# Altium integrated library Infineon RF & Wireless Control.IntLib: 329 symbols (part 8 of 11)
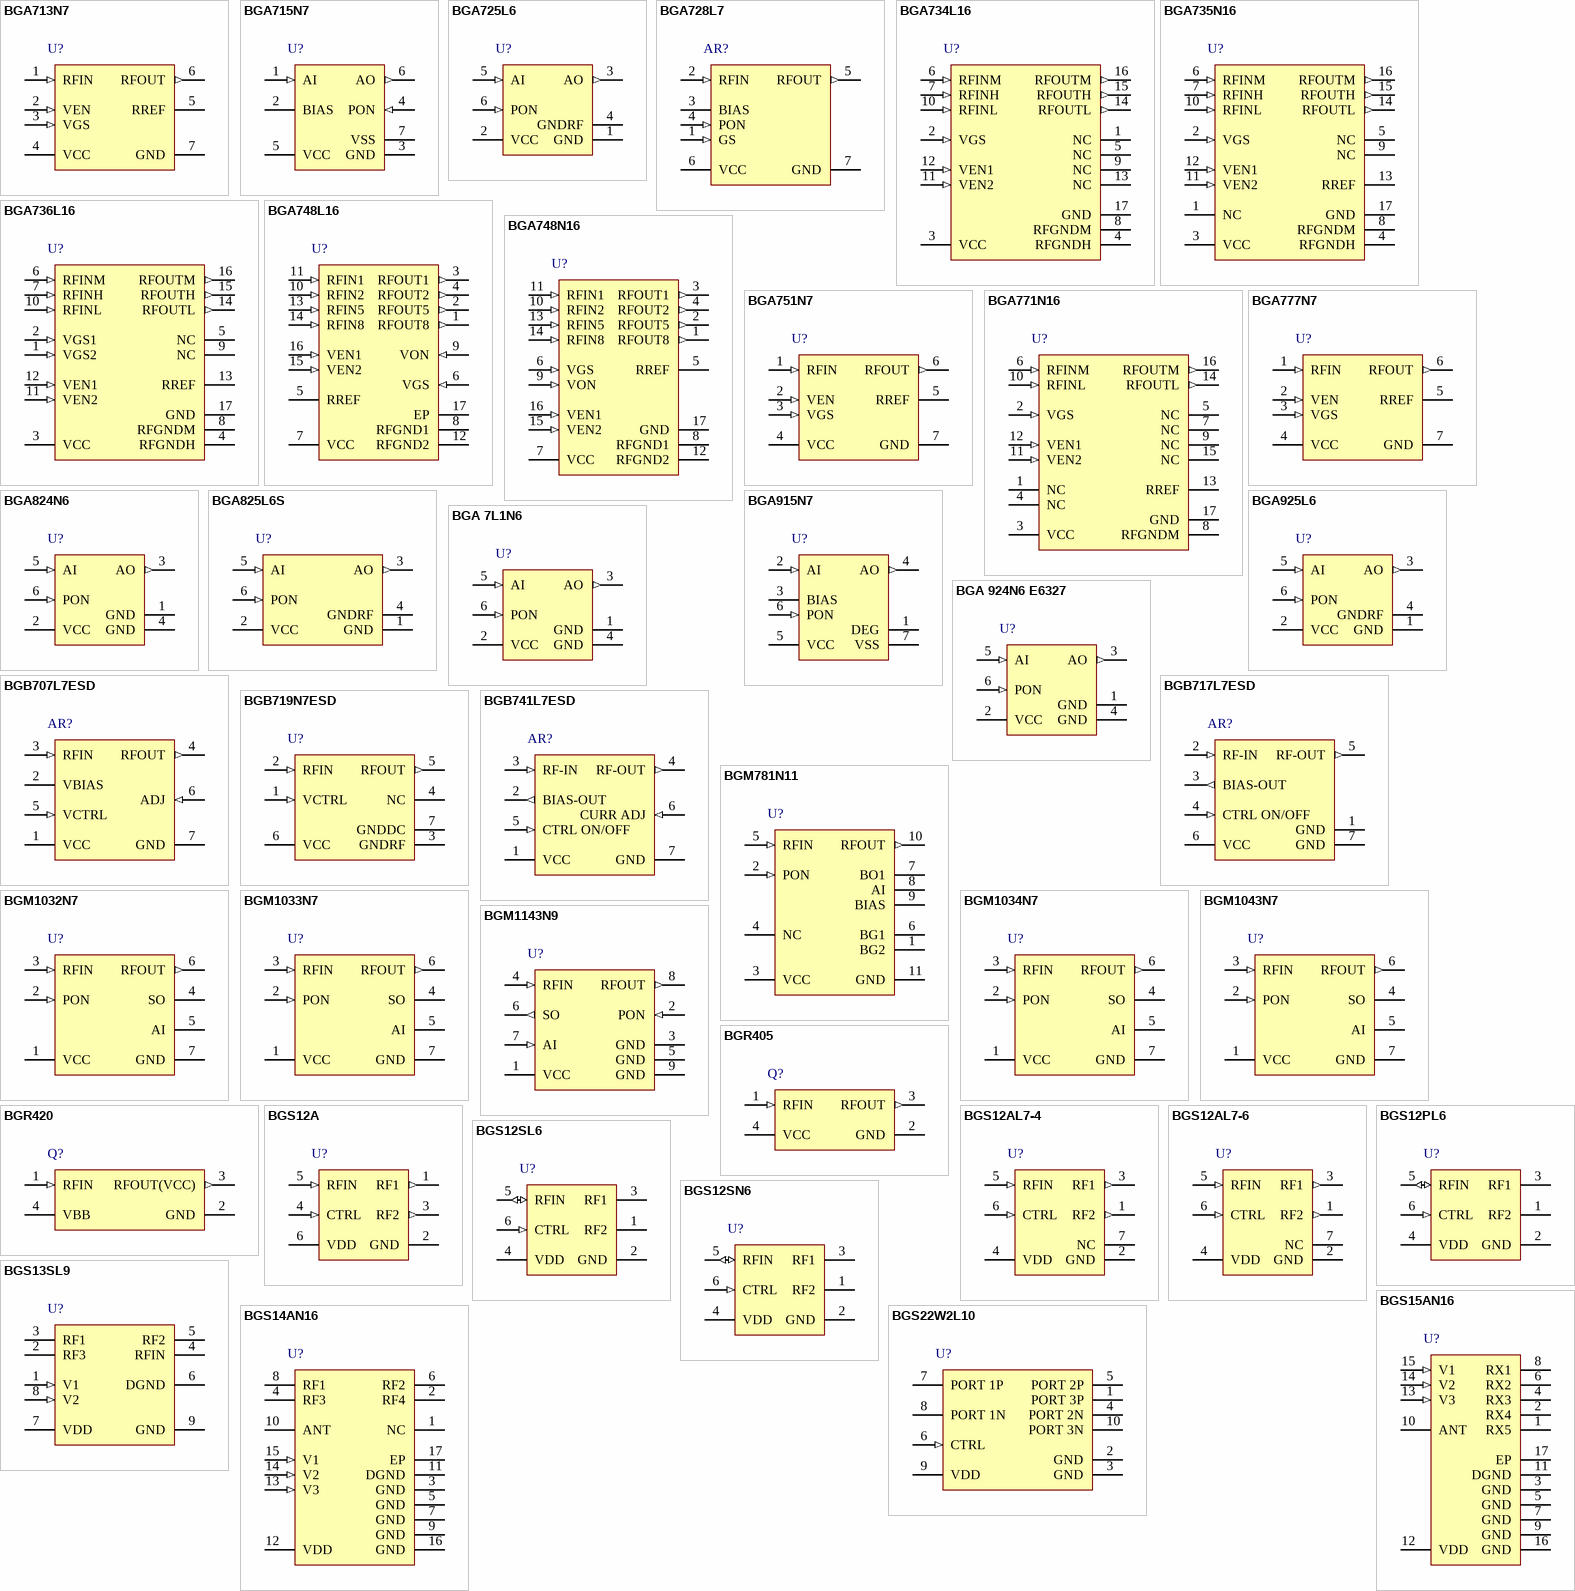
[diagram p16: symbols BGA713N7 to BGS22W2L10]

## BGS22W2L10
designator U?
DPDT (Dual-Pole / Double-Throw) Differential RF Switch, 0.1 to 2 GHz, TSLP-10, Reel, Green; Manufacturer: Infineon; PartNumber: BGS22W2L10; Green: TRUE; Insertion Loss @1GHz: 0.22 dB; Isolation @1GHz: 35 dB; Pmax: 24 dBm; Supply Voltage Range: 2.4 to 3.6 V; DatasheetVersion: Rev. 1.4; PackageVersion: Apr-14; PackageReference: TSLP-10-1; PackageDescription: 10-Pin Thin Small Leadless Package, 1.15 x 1.55 mm Body, 0.4 mm Pitch; Frequency ( f ) Range: 0.1 to 2 GHz; Halogen-free: TRUE; Packing: Reel; Switch Type: DPDT; Mounting Technology: Surface Mount; ComponentLink1Description: Manufacturer URL; ComponentLink1URL: http://www.infineon.com/; ComponentLink2Description: Datasheet; ComponentLink2URL: http://www.infineon.com/dgdl/BGS22W2L10.pdf?folderId=db3a30431f848401011fcbf2ab4c04c4&fileId=db3a30433f1b26e8013f2da8b944383c; ComponentLink3Description: Package Specification; ComponentLink3URL: http://www.infineon.com/dgdl/TSLP-10-1-Package_Overview_.pdf?folderId=db3a30431689f4420116afb5e4d9058b&fileId=db3a304345087709014521345d6c321a
footprint INF-TSLP-10-1_V (TSLP, 10-Leads, Body 1.15x1.55mm, Pitch 0.4mm)
pins: 1 PORT 3P "Differential Output P of Port 3", 2 GND (power) "Ground Pin", 3 GND (power) "Ground Pin", 4 PORT 2N "Differential Output N of Port 2", 5 PORT 2P "Differential Output P of Port 2", 6 CTRL (in) "Control Voltage", 7 PORT 1P "Differential Input P of Port 1", 8 PORT 1N "Differential Input N of Port 1", 9 VDD (power) "Supply Voltage", 10 PORT 3N "Differential Output N of Port 3"

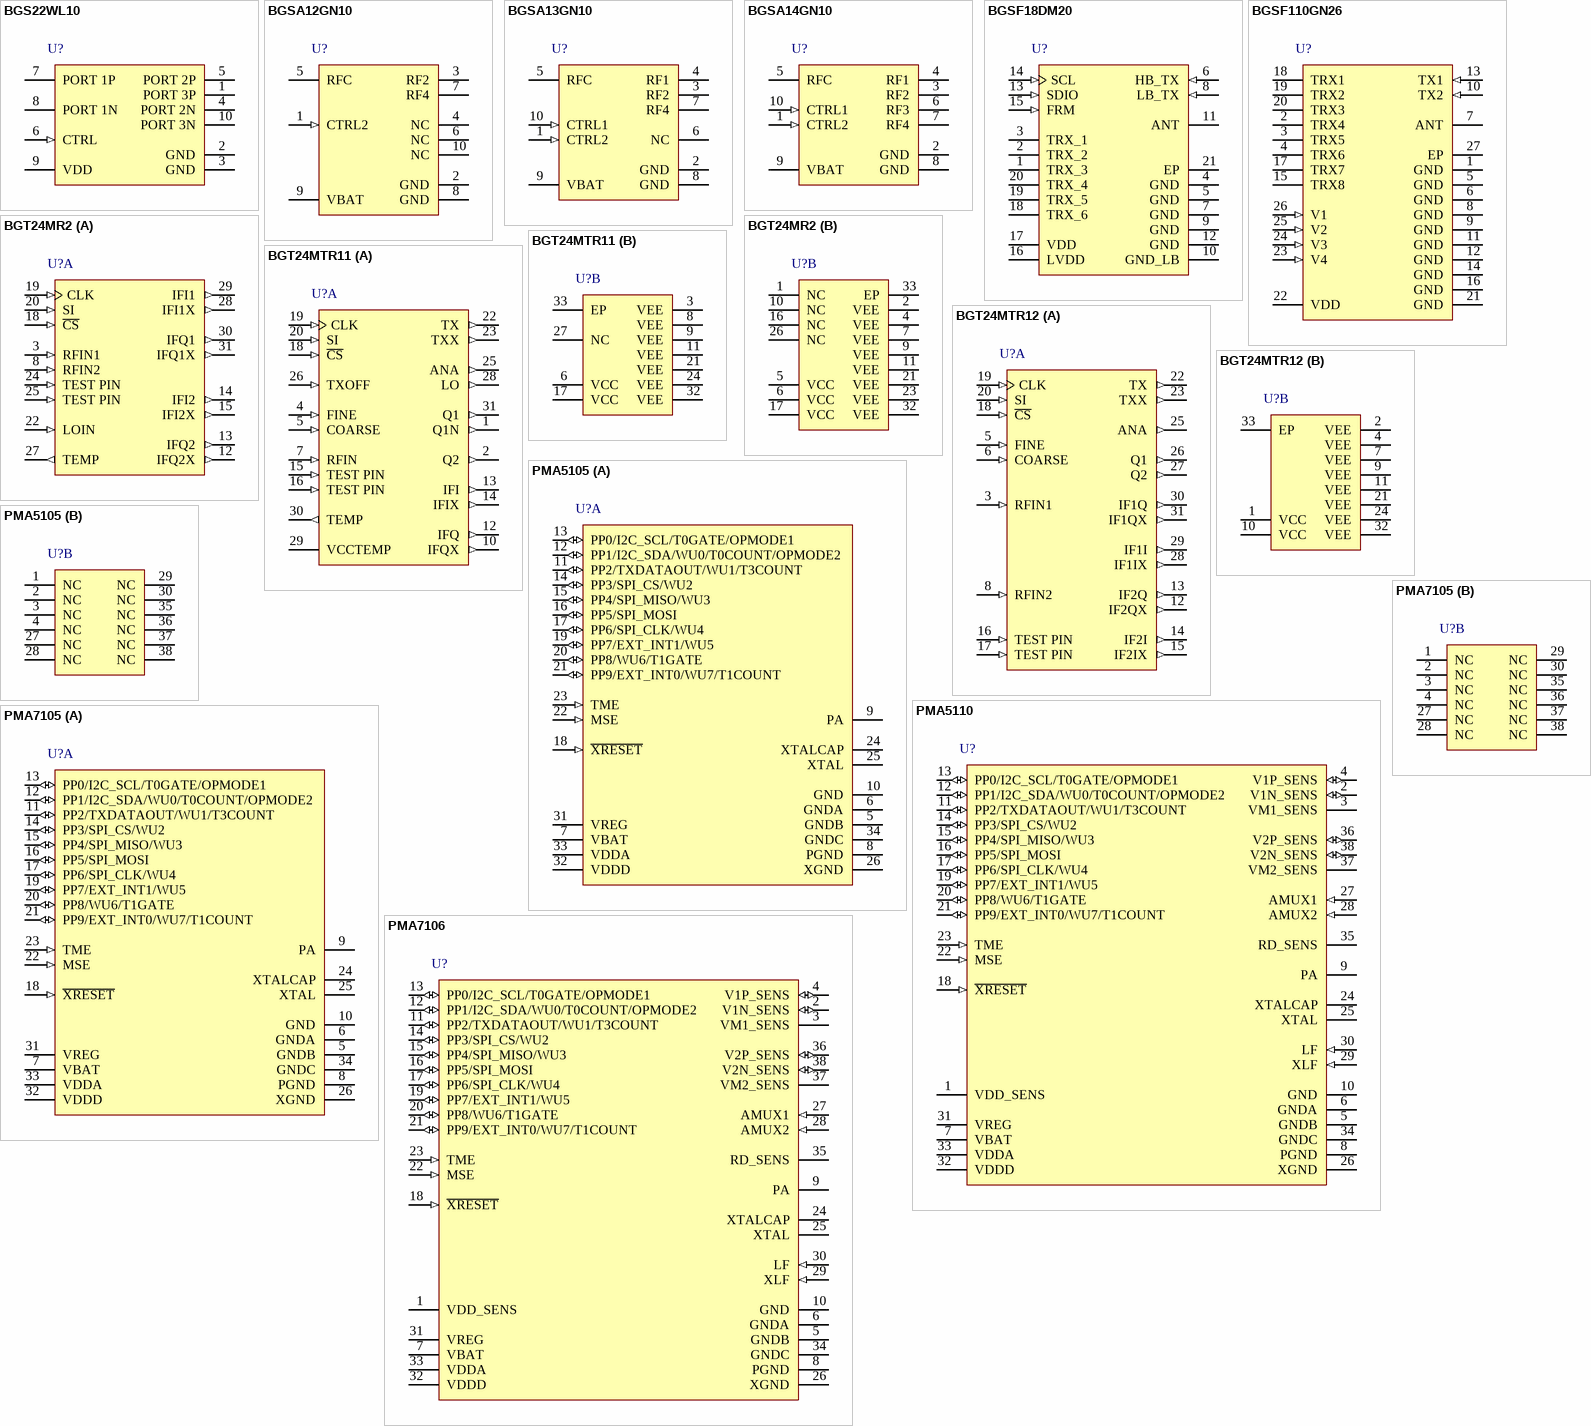
[diagram p7: symbols BGS22WL10 to PMA7106]

## BGS22WL10
designator U?
DPDT (Dual-Pole / Double-Throw) Differential RF Switch, 0.1 to 3 GHz, TSLP-10, Reel, Green; Manufacturer: Infineon; PartNumber: BGS22WL10; Green: TRUE; Insertion Loss @1GHz: 0.34 dB; Isolation @1GHz: 38 dB; Pmax: 30 dBm; Supply Voltage Range: 2.3 to 3.6 V; DatasheetVersion: Rev. 1.6; PackageVersion: Apr-14; PackageReference: TSLP-10-1; PackageDescription: 10-Pin Thin Small Leadless Package, 1.15 x 1.55 mm Body, 0.4 mm Pitch; Frequency ( f ) Range: 0.1 to 3 GHz; Halogen-free: TRUE; Packing: Reel; Switch Type: DPDT; Mounting Technology: Surface Mount; ComponentLink1Description: Manufacturer URL; ComponentLink1URL: http://www.infineon.com/; ComponentLink2Description: Datasheet; ComponentLink2URL: http://www.infineon.com/dgdl/BGS22WL10_2014-05-27.pdf?folderId=db3a30431f848401011fcbf2ab4c04c4&fileId=db3a30433f1b26e8013f2dab63f13842; ComponentLink3Description: Package Specification; ComponentLink3URL: http://www.infineon.com/dgdl/TSLP-10-1-Package_Overview_.pdf?folderId=db3a30431689f4420116afb5e4d9058b&fileId=db3a304345087709014521345d6c321a
footprint INF-TSLP-10-1_V (TSLP, 10-Leads, Body 1.15x1.55mm, Pitch 0.4mm)
pins: 1 PORT 3P "Differential Output P of Port 3", 2 GND (power) "Ground Pin", 3 GND (power) "Ground Pin", 4 PORT 2N "Differential Output N of Port 2", 5 PORT 2P "Differential Output P of Port 2", 6 CTRL (in) "Control Voltage", 7 PORT 1P "Differential Input P of Port 1", 8 PORT 1N "Differential Input N of Port 1", 9 VDD (power) "Supply Voltage", 10 PORT 3N "Differential Output N of Port 3"

## BGSA12GN10
designator U?
Antenna Tuning Solutions for Smartphone & Tablets, TSNP-10, Reel, Green; Manufacturer: Infineon; PartNumber: BGSA12GN10; Green: TRUE; Switch Type: SPDT; PackageVersion: Jun-14; PackageReference: TSNP-10-1; PackageDescription: 10-Pin Thin Small Non Leaded Package, 1.5 x 1.1 mm Body, 0.4 mm Pitch; Halogen-free: TRUE; Packing: Reel; Mounting Technology: Surface Mount; ComponentLink1Description: Manufacturer URL; ComponentLink1URL: http://www.infineon.com/; ComponentLink2Description: Datasheet; ComponentLink2URL: http://www.infineon.com/dgdl/Infineon_AntennaTuningSolutions_2014-06.pdf?folderId=db3a30431441fb5d01146ec76de80910&fileId=5546d461464245d301468a636c8c6598; ComponentLink3Description: Package Specification; ComponentLink3URL: http://www.infineon.com/dgdl/TSNP-10-1-Package_Overview_.pdf?folderId=db3a304327b89750012805e1379a6124&fileId=db3a304344ae06150144b1470dcf009a
footprint INF-TSNP-10-1_V (TSNP, 10-Leads, Body 1.5x1.1mm, Pitch 0.4mm)
pins: 1 CTRL2 (in), 2 GND (power), 3 RF2, 4 NC, 5 RFC, 6 NC, 7 RF4, 8 GND (power), 9 VBAT (power), 10 NC

## BGSA13GN10
designator U?
Antenna Tuning Solutions for Smartphone & Tablets, TSNP-10, Reel, Green; Manufacturer: Infineon; PartNumber: BGSA13GN10; Green: TRUE; Switch Type: SP3T; PackageVersion: Jun-14; PackageReference: TSNP-10-1; PackageDescription: 10-Pin Thin Small Non Leaded Package, 1.5 x 1.1 mm Body, 0.4 mm Pitch; Halogen-free: TRUE; Packing: Reel; Mounting Technology: Surface Mount; ComponentLink1Description: Manufacturer URL; ComponentLink1URL: http://www.infineon.com/; ComponentLink2Description: Datasheet; ComponentLink2URL: http://www.infineon.com/dgdl/Infineon_AntennaTuningSolutions_2014-06.pdf?folderId=db3a30431441fb5d01146ec76de80910&fileId=5546d461464245d301468a636c8c6598; ComponentLink3Description: Package Specification; ComponentLink3URL: http://www.infineon.com/dgdl/TSNP-10-1-Package_Overview_.pdf?folderId=db3a304327b89750012805e1379a6124&fileId=db3a304344ae06150144b1470dcf009a
footprint INF-TSNP-10-1_V (TSNP, 10-Leads, Body 1.5x1.1mm, Pitch 0.4mm)
pins: 1 CTRL2 (in), 2 GND (power), 3 RF2, 4 RF1, 5 RFC, 6 NC, 7 RF4, 8 GND (power), 9 VBAT (power), 10 CTRL1 (in)

## BGSA14GN10
designator U?
Antenna Tuning Solutions for Smartphone & Tablets, TSNP-10, Reel, Green; Manufacturer: Infineon; PartNumber: BGSA14GN10; Green: TRUE; Switch Type: SP4T; PackageVersion: Jun-14; PackageReference: TSNP-10-1; PackageDescription: 10-Pin Thin Small Non Leaded Package, 1.5 x 1.1 mm Body, 0.4 mm Pitch; Halogen-free: TRUE; Packing: Reel; Mounting Technology: Surface Mount; ComponentLink1Description: Manufacturer URL; ComponentLink1URL: http://www.infineon.com/; ComponentLink2Description: Datasheet; ComponentLink2URL: http://www.infineon.com/dgdl/Infineon_AntennaTuningSolutions_2014-06.pdf?folderId=db3a30431441fb5d01146ec76de80910&fileId=5546d461464245d301468a636c8c6598; ComponentLink3Description: Package Specification; ComponentLink3URL: http://www.infineon.com/dgdl/TSNP-10-1-Package_Overview_.pdf?folderId=db3a304327b89750012805e1379a6124&fileId=db3a304344ae06150144b1470dcf009a
footprint INF-TSNP-10-1_V (TSNP, 10-Leads, Body 1.5x1.1mm, Pitch 0.4mm)
pins: 1 CTRL2 (in), 2 GND (power), 3 RF2, 4 RF1, 5 RFC, 6 RF3, 7 RF4, 8 GND (power), 9 VBAT (power), 10 CTRL1 (in)

## BGSF18DM20
designator U?
SP8T Antenna Switch Module, 0.1 to 2.7 GHz, PG-VCCN-20, Reel, Green; Manufacturer: Infineon; PartNumber: BGSF18DM20; Green: TRUE; Pmax: 36 dBm; Supply Voltage Range: 2.85 to 4.7 V; DatasheetVersion: Rev. 2.4; PackageReference: PG-VCCN-20-1; PackageDescription: 20-Pin Small Form Factor Package, 3.2 x 2.8 mm Body, 0.4 mm Pitch; Frequency ( f ) Range: 0.1 to 2.7 GHz; Halogen-free: TRUE; Packing: Reel; Switch Type: SP8T; Mounting Technology: Surface Mount; ComponentLink1Description: Manufacturer URL; ComponentLink1URL: http://www.infineon.com/; ComponentLink2Description: Datasheet; ComponentLink2URL: http://www.infineon.com/dgdl/BGSF18DM20.pdf?folderId=db3a30431f848401011fcbf2ab4c04c4&fileId=db3a30433f2e70c5013f334cfa28119c; ComponentLink3Description: Package Specification; ComponentLink3URL: http://www.infineon.com/dgdl/BGSF18DM20.pdf?folderId=db3a30431f848401011fcbf2ab4c04c4&fileId=db3a30433f2e70c5013f334cfa28119c
footprint INF-PG-VCCN-20-1_N (QFN, 20-Leads, Body 3.2x2.8mm, Pitch 0.4mm, Thermal Pad 1.2X1.6mm, IPC Medium Density)
footprint INF-PG-VCCN-20-1_L (QFN, 20-Leads, Body 3.2x2.8mm, Pitch 0.4mm, Thermal Pad 1.2X1.6mm, IPC High Density)
footprint INF-PG-VCCN-20-1_M (QFN, 20-Leads, Body 3.2x2.8mm, Pitch 0.4mm, Thermal Pad 1.2X1.6mm, IPC Low Density)
pins: 1 TRX_3 "WCDMA TRX-port", 2 TRX_2 "WCDMA TRX-port", 3 TRX_1 "WCDMA TRX-port", 4 GND (power) "Ground", 5 GND (power) "Ground", 6 HB_TX (in) "High Band GSM TX-port", 7 GND (power) "Ground", 8 LB_TX (in) "Low Band GSM TX-port", 9 GND (power) "Ground", 10 GND_LB (power) "Ground Lowband", 11 ANT "Antenna Port", 12 GND (power) "Ground", 13 SDIO (in) "SPI Data", 14 SCL (in) "SPI Clock", 15 FRM (in) "SPI Frame", 16 LVDD (power) "SPI Supply Voltage", 17 VDD (power) "Supply Voltage", 18 TRX_6 "WCDMA TRX-port", 19 TRX_5 "WCDMA TRX-port", 20 TRX_4 "WCDMA TRX-port", 21 EP (power)

## BGSF110GN26
designator U?
SP10T Antenna Switch Module, 0.1 to 3.8 GHz, PG-TSNP-26, Reel, Green; Manufacturer: Infineon; PartNumber: BGSF110GN26; Green: TRUE; Pmax: 36 dBm; Supply Voltage Range: 2.4 - 3.3 V; DatasheetVersion: Rev. 1.3; PackageReference: PG-TSNP-26-2; PackageDescription: 26-Pin Thin Small Non Leaded Package, 3.4 x 2.6 mm Body, 0.4 mm Pitch; Frequency ( f ) Range: 0.1 to 3.8 GHz; Halogen-free: TRUE; Packing: Reel; Switch Type: SP10T; Mounting Technology: Surface Mount; ComponentLink1Description: Manufacturer URL; ComponentLink1URL: http://www.infineon.com/; ComponentLink2Description: Datasheet; ComponentLink2URL: http://www.infineon.com/dgdl/BGSF110GN26_DataSheet_Rev1+3.pdf?folderId=db3a30431f848401011fcbf2ab4c04c4&fileId=db3a30433ea3aef6013ea848e89e07b1; ComponentLink3Description: Package Specification; ComponentLink3URL: http://www.infineon.com/dgdl/BGSF110GN26_DataSheet_Rev1+3.pdf?folderId=db3a30431f848401011fcbf2ab4c04c4&fileId=db3a30433ea3aef6013ea848e89e07b1
footprint INF-PG-TSNP-26-2_V (TSNP, 26-Leads, Body 3.4x2.6mm, Pitch 0.4mm)
pins: 1 GND (power) "RF Ground", 2 TRX4 "WCDMA TRX-Port", 3 TRX5 "WCDMA TRX-Port", 4 TRX6 "WCDMA TRX-Port", 5 GND (power) "RF Ground", 6 GND (power) "RF Ground", 7 ANT "Antenna Port", 8 GND (power) "RF Ground", 9 GND (power) "RF Ground", 10 TX2 (in) "GSM HB-Port", 11 GND (power) "RF Ground", 12 GND (power) "RF Ground", 13 TX1 (in) "GSM LB-Port", 14 GND (power) "RF Ground", 15 TRX8 "WCDMA TRX-Port (GSM RX-Port)", 16 GND (power) "RF Ground", 17 TRX7 "WCDMA TRX-Port (GSM RX-Port)", 18 TRX1 "WCDMA TRX-Port", 19 TRX2 "WCDMA TRX-Port", 20 TRX3 "WCDMA TRX-Port", 21 GND (power) "DC Ground", 22 VDD (power) "Supply Voltage", 23 V4 (in) "GPIO Control Ping", 24 V3 (in) "GPIO Control Pin", 25 V2 (in) "GPIO Control Pin", 26 V1 (in) "GPIO Control Pin", 27 EP (power) "Ground, Die Pad"

## BGT24MR2
designator U?
Silicon Germanium 24 GHz Twin IQ Receiver MMIC, 90 mA ICC, PG-VQFN-32-9, Reel, Green; Manufacturer: Infineon; PartNumber: BGT24MR2; Compression Point P1dB (typ): -12; Frequency (f): 24 - 26 GHz; Frequency Divider: FALSE; Gain (typ): 26 dB; Green: TRUE; ICC (typ): 90 mA; NFmin (typ): 11 dB; DatasheetVersion: Rev. 2.0; PackageVersion: Jul-12; PackageReference: PG-VQFN-32-9; PackageDescription: 32-Pin Plastic (Green) Very Thin Profile Quad Flat Non Leaded Package, Body 5.3 x 4.3 mm, Pitch 0.5 mm; Halogen-free: available; Packing: Reel; Mounting Technology: Surface Mount; ComponentLink1Description: Manufacturer URL; ComponentLink1URL: http://www.infineon.com/; ComponentLink2Description: Datasheet; ComponentLink2URL: http://www.infineon.com/dgdl/bgt24mr2.pdf?folderId=db3a30431f848401011fcbf2ab4c04c4&fileId=db3a304339dcf4b10139df072eae0242; ComponentLink3Description: Package Specification; ComponentLink3URL: http://www.infineon.com/dgdl/PG-VQFN-32-9%2C-15-Package_Overview.pdf?folderId=db3a304316f66ee80116f70ddc29001d&fileId=db3a30433917ea3301392630e9702a58
footprint INF-PG-VQFN-32-9_N (QFN, 32-Leads, Body 5.5x4.5mm, Pitch 0.5mm, Thermal Pad 2.9x3.9mm, IPC Medium Density)
footprint INF-PG-VQFN-32-9_L (QFN, 32-Leads, Body 5.5x4.5mm, Pitch 0.5mm, Thermal Pad 2.9x3.9mm, IPC High Density)
footprint INF-PG-VQFN-32-9_M (QFN, 32-Leads, Body 5.5x4.5mm, Pitch 0.5mm, Thermal Pad 2.9x3.9mm, IPC Low Density)
part A pins: 3 RFIN1 (in) "RF input downconverter 1", 8 RFIN2 (in) "RF input downconverter 2", 12 IFQ2X (out) "Complementary quadrature phase IF output downconverter 2", 13 IFQ2 (out) "Quadrature phase IF output downconverter 2", 14 IFI2 (out) "In phase IF output downconverter 2", 15 IFI2X (out) "Complementary in phase IF output downconverter 2", 18 ~{CS} (in) "Chip select input SPI (inverted)", 19 CLK (in) "Clock input SPI", 20 SI (in) "Data input SPI", 22 LOIN (in) "LO input", 24 TEST PIN (in) "Test pin; DC coupled pin", 25 TEST PIN (in) "Test pin; DC coupled pin", 27 TEMP (out) "Temperature sensor output", 28 IFI1X (out) "Complementary in phase IF output downconverter 1", 29 IFI1 (out) "In phase IF output downconverter 1", 30 IFQ1 (out) "Quadrature phase IF output downconverter 1", 31 IFQ1X (out) "Complementary quadratrue phase IF output downconverter 1"
part B pins: 1 NC "Not connected", 2 VEE (power) "Ground", 4 VEE (power) "Ground", 5 VCC (power) "Supply voltage", 6 VCC (power) "Supply voltage", 7 VEE (power) "Ground", 9 VEE (power) "Ground", 10 NC "Not connected", 11 VEE (power) "Ground", 16 NC "Do not connect; DC coupled pin", 17 VCC (power) "Supply voltage", 21 VEE (power) "Ground", 23 VEE (power) "Ground", 26 NC "Do not connect; DC coupled pin", 32 VEE (power) "Ground", 33 EP (power)

## BGT24MTR11
designator U?
Silicon Germanium 24 GHz Transceiver MMIC, 150 mA ICC, PG-VQFN-32-9, Reel, Green; Manufacturer: Infineon; PartNumber: BGT24MTR11; Compression Point P1dB (typ): -12; Frequency (f): 24 - 26 GHz; Frequency Divider: TRUE; Gain (typ): 26 dB; ICC (typ): 150 mA; NFmin (typ): 12 dB; PTX (typ): 8 dBm; DatasheetVersion: Rev. 2.3; PackageVersion: Jul-12; PackageReference: PG-VQFN-32-9; PackageDescription: 32-Pin Plastic (Green) Very Thin Profile Quad Flat Non Leaded Package, Body 5.3 x 4.3 mm, Pitch 0.5 mm; Supplier 1: Mouser; Supplier Part Number 1: N/A; Green: TRUE; Halogen-free: TRUE; Packing: Reel; Mounting Technology: Surface Mount; ComponentLink1Description: Manufacturer URL; ComponentLink1URL: http://www.infineon.com/; ComponentLink2Description: Datasheet; ComponentLink2URL: http://www.infineon.com/dgdl/bgt24mtr11.pdf?folderId=db3a30431f848401011fcbf2ab4c04c4&fileId=db3a304339dcf4b10139def491930214; ComponentLink3Description: Package Specification; ComponentLink3URL: http://www.infineon.com/dgdl/PG-VQFN-32-9%2C-15-Package_Overview.pdf?folderId=db3a304316f66ee80116f70ddc29001d&fileId=db3a30433917ea3301392630e9702a58
footprint INF-PG-VQFN-32-9_N (QFN, 32-Leads, Body 5.5x4.5mm, Pitch 0.5mm, Thermal Pad 2.9x3.9mm, IPC Medium Density)
footprint INF-PG-VQFN-32-9_L (QFN, 32-Leads, Body 5.5x4.5mm, Pitch 0.5mm, Thermal Pad 2.9x3.9mm, IPC High Density)
footprint INF-PG-VQFN-32-9_M (QFN, 32-Leads, Body 5.5x4.5mm, Pitch 0.5mm, Thermal Pad 2.9x3.9mm, IPC Low Density)
part A pins: 1 Q1N (out) "Complementary prescaler output 1.5GHz", 2 Q2 (out) "Prescaler output 23kHz", 4 FINE (in) "VCO fine tuning input", 5 COARSE (in) "VCO coarse tuning input", 7 RFIN (in) "RF input downconverter", 10 IFQX (out) "Complementary quadrature phase IF output downconverter", 12 IFQ (out) "Quadrature phase IF output downconverter", 13 IFI (out) "In phase IF output downconverter", 14 IFIX (out) "Complementary in phase IF output downconverter", 15 TEST PIN (in) "Test pin; DC coupled pin", 16 TEST PIN (in) "Test pin; DC coupled pin", 18 ~{CS} (in) "Chip select input SPI (inverted)", 19 CLK (in) "Clock input SPI interface", 20 SI (in) "Data input SPI interface", 22 TX (out) "Transmit output", 23 TXX (out) "Complementary transmit output", 25 ANA (out) "Analog output", 26 TXOFF (in) "Pulsable Pin / Please connect to VEE in case TXOFF function is controlled via SPI", 28 LO (out) "LO output", 29 VCCTEMP (power) "Temperature sensor supply voltage", 30 TEMP (out) "Temperature sensor output", 31 Q1 (out) "Prescaler output 1.5GHz"
part B pins: 3 VEE (power) "Ground", 6 VCC (power) "Supply voltage; Total current divided equal on both VCC pins", 8 VEE (power) "Ground", 9 VEE (power) "Ground", 11 VEE (power) "Ground", 17 VCC (power) "Supply voltage; Total current divided equal on both VCC pins", 21 VEE (power) "Ground", 24 VEE (power) "Ground", 27 NC "Not connected", 32 VEE (power) "Ground", 33 EP (power)

## BGT24MTR12
designator U?
Silicon Germanium 24 GHz Transceiver MMIC, 200 mA ICC, PG-VQFN-32-9, Reel, Green; Manufacturer: Infineon; PartNumber: BGT24MTR12; Compression Point P1dB (typ): -12; Frequency (f): 24 - 26 GHz; Frequency Divider: TRUE; Gain (typ): 26 dB; ICC (typ): 200 mA; NFmin (typ): 12 dB; PTX (typ): 8 dBm; DatasheetVersion: Rev. 2.0; PackageVersion: Jul-12; PackageReference: PG-VQFN-32-9; PackageDescription: 32-Pin Plastic (Green) Very Thin Profile Quad Flat Non Leaded Package, Body 5.3 x 4.3 mm, Pitch 0.5 mm; Supplier 1: Mouser; Supplier Part Number 1: N/A; Green: TRUE; Halogen-free: TRUE; Packing: Reel; Mounting Technology: Surface Mount; ComponentLink1Description: Manufacturer URL; ComponentLink1URL: http://www.infineon.com/; ComponentLink2Description: Datasheet; ComponentLink2URL: http://www.infineon.com/dgdl/bgt24mtr12.pdf?folderId=db3a30431f848401011fcbf2ab4c04c4&fileId=db3a304339dcf4b10139df108e75025b; ComponentLink3Description: Package Specification; ComponentLink3URL: http://www.infineon.com/dgdl/PG-VQFN-32-9%2C-15-Package_Overview.pdf?folderId=db3a304316f66ee80116f70ddc29001d&fileId=db3a30433917ea3301392630e9702a58
footprint INF-PG-VQFN-32-9_N (QFN, 32-Leads, Body 5.5x4.5mm, Pitch 0.5mm, Thermal Pad 2.9x3.9mm, IPC Medium Density)
footprint INF-PG-VQFN-32-9_L (QFN, 32-Leads, Body 5.5x4.5mm, Pitch 0.5mm, Thermal Pad 2.9x3.9mm, IPC High Density)
footprint INF-PG-VQFN-32-9_M (QFN, 32-Leads, Body 5.5x4.5mm, Pitch 0.5mm, Thermal Pad 2.9x3.9mm, IPC Low Density)
part A pins: 3 RFIN1 (in) "RF input downconverter 1", 5 FINE (in) "VCO fine tuning input", 6 COARSE (in) "VCO coarse tuning input", 8 RFIN2 (in) "RF input downconverter 2", 12 IF2QX (out) "Complementary quadrature phase IF output downconverter 2", 13 IF2Q (out) "Quadrature phase IF output downconverter 2", 14 IF2I (out) "In phase IF output downconverter 2", 15 IF2IX (out) "Complementary in phase IF output downconverter 2", 16 TEST PIN (in) "Test pin; DC coupled pin", 17 TEST PIN (in) "Test pin; DC coupled pin", 18 ~{CS} (in) "Chip select input SPI (inverted)", 19 CLK (in) "Clock input SPI block", 20 SI (in) "Data input SPI block", 22 TX (out) "Transmit output", 23 TXX (out) "Complementary transmit output", 25 ANA (out) "Analog output", 26 Q1 (out) "Prescaler output 1.5GHz", 27 Q2 (out) "Prescaler output 23kHz", 28 IF1IX (out) "Complementary in phase IF output downconverter 1", 29 IF1I (out) "In phase IF output downconverter 1", 30 IF1Q (out) "Quadrature phase IF output downconverter 1", 31 IF1QX (out) "Complementary quadrature phase IF output downconverter 1"
part B pins: 1 VCC (power) "Supply voltage", 2 VEE (power) "Ground", 4 VEE (power) "Ground", 7 VEE (power) "Ground", 9 VEE (power) "Ground", 10 VCC (power) "Supply voltage", 11 VEE (power) "Ground", 21 VEE (power) "Ground", 24 VEE (power) "Ground", 32 VEE (power) "Ground", 33 EP (power)

## PMA5105
designator U?
RF Transmitter ASK / FSK 315 / 434 / 868 / 915 MHz, Embedded 8051 Microcontroller, 10-bit ADC, 125 kHz ASK LF Receiver, -40 to 125 degC, PG-TSSOP-38, Green; Manufacturer: Infineon; PartNumber: PMA5105; Channel Requirements per Band: Single Channel; Frequency Band: 315 MHz, 434 MHz, 868 MHz, 915 MHz; Green: yes; Transmit Power (at 3V): 5 dBm, 8 dBm, 10 dBm; DatasheetVersion: Rev. 2.1; PackageReference: PG-TSSOP-38; PackageDescription: 38-Pin Plastic (Green) Thin Shrink Small Outline Package, 9.7 x 4.4 mm Body, 0.5 mm Pitch; Supplier 1: Mouser; Supplier Part Number 1: 726-PMA5105; Supplier 2: Digi-Key; Supplier Part Number 2: PMA5105INTR-ND; Supplier 3: Digi-Key; Supplier Part Number 3: PMA5105INCT-ND; Supplier 4: Digi-Key; Supplier Part Number 4: PMA5105INDKR-ND; Halogen-free: yes; Integrated Microcontroller: yes; Modulation Type: ASK / FSK; Mounting Technology: Surface Mount; ComponentLink1Description: Manufacturer URL; ComponentLink1URL: http://www.infineon.com/; ComponentLink2Description: Datasheet; ComponentLink2URL: http://www.infineon.com/dgdl/PMA51xx_DS_V2_1.pdf?folderId=db3a30431689f4420116a096e1db033e&fileId=db3a30431ed1d7b2011efebe17d76b89; ComponentLink3Description: Package Specification; ComponentLink3URL: http://www.infineon.com/cms/packages/SMD_-_Surface_Mounted_Devices/P-PG-TSSOP/P-PG-TSSOP-38-3.html?__locale=en
footprint INF-PG-TSSOP-38_N (SOP, 38-Leads, Body 9.7x4.4 mm, Pitch 0.5 mm, IPC Medium Density)
footprint INF-PG-TSSOP-38_L (SOP, 38-Leads, Body 9.7x4.4 mm, Pitch 0.5 mm, IPC High Density)
footprint INF-PG-TSSOP-38_M (SOP, 38-Leads, Body 9.7x4.4 mm, Pitch 0.5 mm, IPC Low Density)
part A pins: 5 GNDB (power) "Ground", 6 GNDA (power) "Ground", 7 VBAT (power) "Battery Supply Voltage Regulators", 8 PGND (power) "Power Amplifier Ground Double bond", 9 PA (oc) "Power Amplifier Output Stage", 10 GND (power) "Ground", 11 PP2/TXDATAOUT/WU1/T3COUNT (io) "PP2-) Serial output of Manchester / Biphase encoded data.-)GPIO -) External wake-up source 1 -)Clock source for Timer 3 -) Internal, switchable pull-up/pulldown.", 12 PP1/I2C_SDA/WU0/T0COUNT/OPMODE2 (io) "PP1-) I2C bus interface data-) GPIO-) External wake-up source 0-) Clock source for Timer 0-) Select operation mode -) Internal, switchable pull-up/pulldown.", 13 PP0/I2C_SCL/T0GATE/OPMODE1 (io) "PP0-) I2C bus interface clock-) GPIO-) External enable for Timer 0-) Select operation mode-) Internal, switchable pull-up/pulldown.", 14 PP3/SPI_CS/WU2 (io) "PP3-) SPI bus interface chip select-) GPIO-) External wake-up source 2-) Internal, switchable pull-up/pulldown.", 15 PP4/SPI_MISO/WU3 (io) "PP4-) SPI bus interface master in slave out-) GPIO-) External wake-up source 3-) Internal, switchable pull-up/pulldown.", 16 PP5/SPI_MOSI (io) "PP5-) SPI bus interface master out slave in-) GPIO-) Internal, switchable pull-up/pulldown.", 17 PP6/SPI_CLK/WU4 (io) "PP6-) SPI bus interface clock -) GPIO -) External wake-up source 4 -) Internal, switchable pull-up/pulldown.", 18 ~{XRESET} (in) "External Reset Low active", 19 PP7/EXT_INT1/WU5 (io) "PP7-) GPIO-) External interrupt source 1-) External wake-up source 5-) Internal, switchable pull-up/pulldown.", 20 PP8/WU6/T1GATE (io) "PP8-) GPIO-) External wake-up source 6-) External enable for Timer 1-) Internal, switchable pull-up/pulldown.", 21 PP9/EXT_INT0/WU7/T1COUNT (io) "PP9-) GPIO-) External interrupt source 0-) External wake-up source 7-) Clock source for Timer 1-) Internal, switchable pull-up/pulldown.", 22 MSE (in) "Mode Select Enable High active, set to GND in NORMAL Mode", 23 TME (in) "Test Mode Enable, n.a. for Normal Application Has to be set to GND in NORMAL Mode", 24 XTALCAP "Crystal Oscillator Load Capacitance", 25 XTAL "Crystal Oscillator Input", 26 XGND (power) "Crystal Oscillator Ground", 31 VREG (power) "Internal Voltage Regulator Output Connect to decoupling capacitor (CBCAP=100 nF) Regulated Power supply.", 32 VDDD (power) "Digital Supply", 33 VDDA (power) "Analog Supply", 34 GNDC (power) "Ground"
part B pins: 1 NC "No connection", 2 NC "No connection", 3 NC "No connection", 4 NC "No connection", 27 NC "No connection", 28 NC "No connection", 29 NC "No connection", 30 NC "No connection", 35 NC "No connection", 36 NC "No connection", 37 NC "No connection", 38 NC "No connection"

## PMA5110
designator U?
RF Transmitter ASK / FSK 315 / 434 / 868 / 915 MHz, Embedded 8051 Microcontroller, 10-bit ADC, 125 kHz ASK LF Receiver, -40 to 125 degC, PG-TSSOP-38, Green; Manufacturer: Infineon; PartNumber: PMA5110; Channel Requirements per Band: Single Channel; Frequency Band: 315 MHz, 434 MHz, 868 MHz, 915 MHz; Green: yes; Transmit Power (at 3V): 5 dBm, 8 dBm, 10 dBm; DatasheetVersion: Rev. 2.1; PackageReference: PG-TSSOP-38; PackageDescription: 38-Pin Plastic (Green) Thin Shrink Small Outline Package, 9.7 x 4.4 mm Body, 0.5 mm Pitch; Supplier 1: Mouser; Supplier Part Number 1: 726-PMA5110; Supplier 2: Digi-Key; Supplier Part Number 2: PMA5110INTR-ND; Supplier 3: Digi-Key; Supplier Part Number 3: PMA5110INCT-ND; Supplier 4: Digi-Key; Supplier Part Number 4: PMA5110INDKR-ND; Halogen-free: yes; Integrated Microcontroller: yes; Modulation Type: ASK / FSK; Mounting Technology: Surface Mount; ComponentLink1Description: Manufacturer URL; ComponentLink1URL: http://www.infineon.com/; ComponentLink2Description: Datasheet; ComponentLink2URL: http://www.infineon.com/dgdl/PMA51xx_DS_V2_1.pdf?folderId=db3a30431689f4420116a096e1db033e&fileId=db3a30431ed1d7b2011efebe17d76b89; ComponentLink3Description: Package Specification; ComponentLink3URL: http://www.infineon.com/cms/packages/SMD_-_Surface_Mounted_Devices/P-PG-TSSOP/P-PG-TSSOP-38-3.html?__locale=en
footprint INF-PG-TSSOP-38_N (SOP, 38-Leads, Body 9.7x4.4 mm, Pitch 0.5 mm, IPC Medium Density)
footprint INF-PG-TSSOP-38_L (SOP, 38-Leads, Body 9.7x4.4 mm, Pitch 0.5 mm, IPC High Density)
footprint INF-PG-TSSOP-38_M (SOP, 38-Leads, Body 9.7x4.4 mm, Pitch 0.5 mm, IPC Low Density)
pins: 1 VDD_SENS (power) "Sensor Bridge Positive Supply Output of VReg during measurement.", 2 V1N_SENS (io) "Channel 6, High-gain ADC Input Negative input connect to sensor bridge.Output of wheatstone bridge sensor", 3 VM1_SENS (power) "Channel 6, High-gain ADC Input Sensor bridge negative supply.Same voltage as chip GND.", 4 V1P_SENS (io) "Channel 6, High-gain ADC Input Positive input connect to sensor bridge.Output of wheatstone bridge sensor", 5 GNDB (power) "Ground", 6 GNDA (power) "Ground", 7 VBAT (power) "Battery Supply Voltage Regulator", 8 PGND (power) "Power Amplifier Ground Double bond", 9 PA (oc) "Power Amplifier Output Stage", 10 GND (power) "Ground", 11 PP2/TXDATAOUT/WU1/T3COUNT (io) "PP2 -) Serial output of Manchester /Biphase encoded data.-) GPIO-) External wake-up source 1-) Clock source for Timer 3-) Internal, switchable pull-up/pull-down.", 12 PP1/I2C_SDA/WU0/T0COUNT/OPMODE2 (io) "PP1-) I2C bus interface data-) GPIO-) External wake-up source 0-) Clock source for Timer 0-) Select operation mode-) Internal, switchable pull-up/pull-down.", 13 PP0/I2C_SCL/T0GATE/OPMODE1 (io) "PP0-) I2C bus interface clock-) GPIO-) External enable for Timer 0-) Select operation mode-) Internal, switchable pull-up/pull-down.", 14 PP3/SPI_CS/WU2 (io) "PP3-) SPI bus interface chip select-) GPIO-) External wake-up source 2-) Internal, switchable pull-up/pull-down.", 15 PP4/SPI_MISO/WU3 (io) "PP4-) SPI bus interface master in slave out-) GPIO-) External wake-up source 3-) Internal, switchable pull-up/pull-down.", 16 PP5/SPI_MOSI (io) "PP5-) SPI bus interface master out slave in-) GPIO-) Internal, switchable pull-up/pull-down.", 17 PP6/SPI_CLK/WU4 (io) "PP6-) SPI bus interface clock-) GPIO-) External wake-up source 4-) Internal, switchable pull-up/pull-down.", 18 ~{XRESET} (in) "External Reset Low active", 19 PP7/EXT_INT1/WU5 (io) "PP7-) GPIO-) External interrupt source 1-) External wake-up source 5-) Internal, switchable pull-up/pull-down.", 20 PP8/WU6/T1GATE (io) "PP8-) GPIO-) External wake-up source 6-) External enable for Timer 1-) Internal, switchable pull-up/pull-down.", 21 PP9/EXT_INT0/WU7/T1COUNT (io) "PP9-) GPIO-) External interrupt source 0-) External wake-up source 7-) Clock source for Timer 1 -) Internal, switchable pull-up/pull-down.", 22 MSE (in) "Mode Select Enable High active, set to GND in NORMAL Mode.", 23 TME (in) "Test Mode Enable, n.a. for Normal Application Has to be set to GND in NORMAL Mode", 24 XTALCAP "Crystal Oscillator Load Capacitance", 25 XTAL "Crystal Oscillator Input", 26 XGND (power) "Crystal Oscillator Ground", 27 AMUX1 (in) "Additional Differential ADC Standard Input1 for External Sensor Connect to GND if not use.", 28 AMUX2 (in) "Additional Differential ADC Standard Input2 for External Sensor Connect to GND if not use.", 29 XLF (in) "Differential LF Receiver Input2 125kHz Input.", 30 LF (in) "Differential LF Receiver Input1", 31 VREG (power) "Internal Voltage Regulator Output Connect to decoupling capacitor (CBCAP=100 nF) Regulated Power supply.", 32 VDDD (power) "Digital Supply", 33 VDDA (power) "Analog Supply", 34 GNDC (power) "Ground", 35 RD_SENS "Diagnostic Resistor Use only by having diagnostic resistor on sensor bridge for highgain ADC input, otherwise no connection", 36 V2P_SENS (io) "Channel 7, High-gain ADC Input Positive input connect to sensor bridge.Output of Wheatstone bridge sensor.", 37 VM2_SENS (power) "Channel 7, High-gain ADC Input Sensor bridge negative supply.Same voltage as chip GND.", 38 V2N_SENS (io) "Channel 7, High-gain ADC Input Negative input connect to sensor bridge.Output of Wheatstone bridge sensor."

## PMA7105
designator U?
RF Transmitter ASK / FSK 315 / 434 / 868 / 915 MHz, Embedded 8051 Microcontroller, 10-bit ADC, 125 kHz ASK LF Receiver, -40 to 85 degC, PG-TSSOP-38, Green; Manufacturer: Infineon; PartNumber: PMA7105; Channel Requirements per Band: Single Channel; Frequency Band: 315 MHz, 434 MHz, 868 MHz, 915 MHz; Green: yes; Transmit Power (at 3V): 5 dBm, 8 dBm, 10 dBm; DatasheetVersion: Rev. 2.1; PackageReference: PG-TSSOP-38; PackageDescription: 38-Pin Plastic (Green) Thin Shrink Small Outline Package, 9.7 x 4.4 mm Body, 0.5 mm Pitch; Supplier 1: Mouser; Supplier Part Number 1: 726-PMA7105; Supplier 2: Digi-Key; Supplier Part Number 2: PMA7105INTR-ND; Supplier 3: Digi-Key; Supplier Part Number 3: PMA7105INCT-ND; Supplier 4: Digi-Key; Supplier Part Number 4: PMA7105INDKR-ND; Halogen-free: yes; Integrated Microcontroller: yes; Modulation Type: ASK / FSK; Mounting Technology: Surface Mount; ComponentLink1Description: Manufacturer URL; ComponentLink1URL: http://www.infineon.com/; ComponentLink2Description: Datasheet; ComponentLink2URL: http://www.infineon.com/dgdl/PMA71xx_DS_V2_1.pdf?folderId=db3a3043191a246301192dd387ea2ae3&fileId=db3a30431be39b97011c22f8f73e77c9; ComponentLink3Description: Package Specification; ComponentLink3URL: http://www.infineon.com/cms/packages/SMD_-_Surface_Mounted_Devices/P-PG-TSSOP/P-PG-TSSOP-38-3.html?__locale=en
footprint INF-PG-TSSOP-38_N (SOP, 38-Leads, Body 9.7x4.4 mm, Pitch 0.5 mm, IPC Medium Density)
footprint INF-PG-TSSOP-38_L (SOP, 38-Leads, Body 9.7x4.4 mm, Pitch 0.5 mm, IPC High Density)
footprint INF-PG-TSSOP-38_M (SOP, 38-Leads, Body 9.7x4.4 mm, Pitch 0.5 mm, IPC Low Density)
part A pins: 5 GNDB (power) "Ground", 6 GNDA (power) "Ground", 7 VBAT (power) "Battery Supply Voltage  Regulators", 8 PGND (power) "Power Amplifier Ground Double bond", 9 PA (oc) "Power Amplifier Output Stage", 10 GND (power) "Ground", 11 PP2/TXDATAOUT/WU1/T3COUNT (io) "PP2 -) Serial output of Manchester /  Biphase encoded data. -) GPIO -) External wake-up source 1 -) Clock source for Timer 3 -) Internal, switchable pull-up/pull-down.", 12 PP1/I2C_SDA/WU0/T0COUNT/OPMODE2 (io) "PP1 -) I2C bus interface data -) GPIO -) External wake-up source 0 -) Clock source for Timer 0 -) Select operation mode -) Internal, switchable pull-up/pull-down.", 13 PP0/I2C_SCL/T0GATE/OPMODE1 (io) "PP0 -) I2C bus interface clock -) GPIO -) External enable for Timer 0 -) Select operation mode -) Internal, switchable pull-up/pull-down.", 14 PP3/SPI_CS/WU2 (io) "PP3 -) SPI bus interface chip select -) GPIO -) External wake-up source 2 -) Internal, switchable pull-up/pull-down.", 15 PP4/SPI_MISO/WU3 (io) "PP4 -) SPI bus interface master in slave  out -) GPIO -) External wake-up source 3 -) Internal, switchable pull-up/pull-down.", 16 PP5/SPI_MOSI (io) "PP5 -) SPI bus interface master out  slave in -) GPIO -) Internal, switchable pull-up/pull-down.", 17 PP6/SPI_CLK/WU4 (io) "PP6 -) SPI bus interface clock -) GPIO -) External wake-up source 4 -) Internal, switchable pull-up/pull-down.", 18 ~{XRESET} (in) "External Reset Low active", 19 PP7/EXT_INT1/WU5 (io) "PP7 -) GPIO -) External interrupt source 1 -) External wake-up source 5 -) Internal, switchable pull-up/pull-down.", 20 PP8/WU6/T1GATE (io) "PP8 -) GPIO -) External wake-up source 6 -) External enable for Timer 1 -) Internal, switchable pull-up/pull-down.", 21 PP9/EXT_INT0/WU7/T1COUNT (io) "PP9 -) GPIO -) External interrupt source 0 -) External wake-up source 7 -) Clock source for Timer 1 -) Internal, switchable pull-up/pull-down.", 22 MSE (in) "Mode Select Enable High active,set to GND in NORMAL Mode.", 23 TME (in) "Test Mode Enable, n.a. for Normal Application Has to be set to GND in NORMAL Mode", 24 XTALCAP "Crystal Oscillator Load  Capacitance", 25 XTAL "Crystal Oscillator Input", 26 XGND (power) "Crystal Oscillator Ground", 31 VREG (power) "Internal Voltage Regulator  Output Connect to decoupling capacitor  (CBCAP =100 nF) Regulated Power supply.", 32 VDDD (power) "Digital Supply", 33 VDDA (power) "Analog Supply", 34 GNDC (power) "Ground"
part B pins: 1 NC "Not Connected", 2 NC "Not Connected", 3 NC "Not Connected", 4 NC "Not Connected", 27 NC "Not Connected", 28 NC "Not Connected", 29 NC "Not Connected", 30 NC "Not Connected", 35 NC "Not Connected", 36 NC "Not Connected", 37 NC "Not Connected", 38 NC "Not Connected"

## PMA7106
designator U?
RF Transmitter ASK / FSK 315 / 434 / 868 / 915 MHz, Embedded 8051 Microcontroller, 10-bit ADC, 125 kHz ASK LF Receiver, -40 to 85 degC, PG-TSSOP-38, Green; Manufacturer: Infineon; PartNumber: PMA7106; Channel Requirements per Band: Single Channel; Frequency Band: 315 MHz, 434 MHz, 868 MHz, 915 MHz; Green: yes; Transmit Power (at 3V): 5 dBm, 8 dBm, 10 dBm; DatasheetVersion: Rev. 2.1; PackageReference: PG-TSSOP-38; PackageDescription: 38-Pin Plastic (Green) Thin Shrink Small Outline Package, 9.7 x 4.4 mm Body, 0.5 mm Pitch; Supplier 1: Mouser; Supplier Part Number 1: 726-PMA7106; Supplier 2: Digi-Key; Supplier Part Number 2: PMA7106INTR-ND; Supplier 3: Digi-Key; Supplier Part Number 3: PMA7106INCT-ND; Supplier 4: Digi-Key; Supplier Part Number 4: PMA7106INDKR-ND; Halogen-free: yes; Integrated Microcontroller: yes; Modulation Type: ASK / FSK; Mounting Technology: Surface Mount; ComponentLink1Description: Manufacturer URL; ComponentLink1URL: http://www.infineon.com/; ComponentLink2Description: Datasheet; ComponentLink2URL: http://www.infineon.com/dgdl/PMA71xx_DS_V2_1.pdf?folderId=db3a3043191a246301192dd387ea2ae3&fileId=db3a30431be39b97011c22f8f73e77c9; ComponentLink3Description: Package Specification; ComponentLink3URL: http://www.infineon.com/cms/packages/SMD_-_Surface_Mounted_Devices/P-PG-TSSOP/P-PG-TSSOP-38-3.html?__locale=en
footprint INF-PG-TSSOP-38_N (SOP, 38-Leads, Body 9.7x4.4 mm, Pitch 0.5 mm, IPC Medium Density)
footprint INF-PG-TSSOP-38_L (SOP, 38-Leads, Body 9.7x4.4 mm, Pitch 0.5 mm, IPC High Density)
footprint INF-PG-TSSOP-38_M (SOP, 38-Leads, Body 9.7x4.4 mm, Pitch 0.5 mm, IPC Low Density)
pins: 1 VDD_SENS (power) "Sensor Bridge Positive Supply Output of VReg during measurement.", 2 V1N_SENS (io) "Channel 6, High-gain ADC Input Negative input connect to sensor bridge. Output of wheatstone bridge sensor", 3 VM1_SENS (power) "Channel 6, High-gain ADC Input Sensor bridge negative supply. Same voltage as chip GND.", 4 V1P_SENS (io) "Channel 6, High-gain ADC Input Positive input connect to sensor bridge. Output of wheatstone bridge sensor", 5 GNDB (power) "Ground", 6 GNDA (power) "Ground", 7 VBAT (power) "Battery Supply Voltage Regulators", 8 PGND (power) "Power Amplifier Ground Double bond", 9 PA (oc) "Power Amplifier Output Stage", 10 GND (power) "Ground", 11 PP2/TXDATAOUT/WU1/T3COUNT (io) "PP2 -) Serial output of Manchester / Biphase encoded data. -) GPIO -) External wake-up source 1 -) Clock source for Timer 3 -) Internal, switchable pull-up/pull-down.", 12 PP1/I2C_SDA/WU0/T0COUNT/OPMODE2 (io) "PP1 -) I2C bus interface data -) GPIO -) External wake-up source 0 -) Clock source for Timer 0 -) Select operation mode -) Internal, switchable pull-up/pull-down.", 13 PP0/I2C_SCL/T0GATE/OPMODE1 (io) "PP0 -) I2C bus interface clock -) GPIO -) External enable for Timer 0 -) Select operation mode -) Internal, switchable pull-up/pull-down.", 14 PP3/SPI_CS/WU2 (io) "PP3 -) SPI bus interface chip select -) GPIO -) External wake-up source 2 -) Internal, switchable pull-up/pull-down.", 15 PP4/SPI_MISO/WU3 (io) "PP4 -) SPI bus interface master in slave out -) GPIO -) External wake-up source 3 -) Internal, switchable pull-up/pull-down.", 16 PP5/SPI_MOSI (io) "PP5 -) SPI bus interface master out slave in -) GPIO -) Internal, switchable pull-up/pull-down.", 17 PP6/SPI_CLK/WU4 (io) "PP6 -) SPI bus interface clock -) GPIO -) External wake-up source 4 -) Internal, switchable pull-up/pull-down.", 18 ~{XRESET} (in) "External Reset Low active", 19 PP7/EXT_INT1/WU5 (io) "PP7 -) GPIO -) External interrupt source 1 -) External wake-up source 5 -) Internal, switchable pull-up/pulldown.", 20 PP8/WU6/T1GATE (io) "PP8 -) GPIO -) External wake-up source 6 -) External enable for Timer 1 -) Internal, switchable pull-up/pulldown.", 21 PP9/EXT_INT0/WU7/T1COUNT (io) "PP9 -) GPIO -) External interrupt source 0 -) External wake-up source 7 -) Clock source for Timer 1 -) Internal, switchable pull-up/pulldown.", 22 MSE (in) "Mode Select Enable High active, set to GND in NORMAL Mode.", 23 TME (in) "Test Mode Enable, n.a. for Normal Application Has to be set to GND in NORMAL Mode", 24 XTALCAP "Crystal Oscillator Load Capacitance", 25 XTAL "Crystal Oscillator Input", 26 XGND (power) "Crystal Oscillator Ground", 27 AMUX1 (in) "Additional Differential ADC Standard Input1 for External Sensor Connect to GND if not use.", 28 AMUX2 (in) "Additional Differential ADC Standard Input2 for External Sensor Connect to GND if not use.", 29 XLF (in) "Differential LF Receiver Input2 125kHz Input.", 30 LF (in) "Differential LF Receiver Input1", 31 VREG (power) "Internal Voltage Regulator Output Connect to decoupling capacitor (CBCAP=100 nF) Regulated Power supply.", 32 VDDD (power) "Digital Supply", 33 VDDA (power) "Analog Supply", 34 GNDC (power) "Ground", 35 RD_SENS "Diagnostic Resistor Use only by having diagnostic resistor on sensor bridge for highgain ADC input, otherwise no connection", 36 V2P_SENS (io) "Channel 7, High-gain ADC Input Positive input connect to sensor bridge. Output of Wheatstone bridge sensor.", 37 VM2_SENS (power) "Channel 7, High-gain ADC Input Sensor bridge negative supply. Same voltage as chip GND.", 38 V2N_SENS (io) "Channel 7, High-gain ADC Input Negative input connect to sensor bridge. Output of Wheatstone bridge sensor."

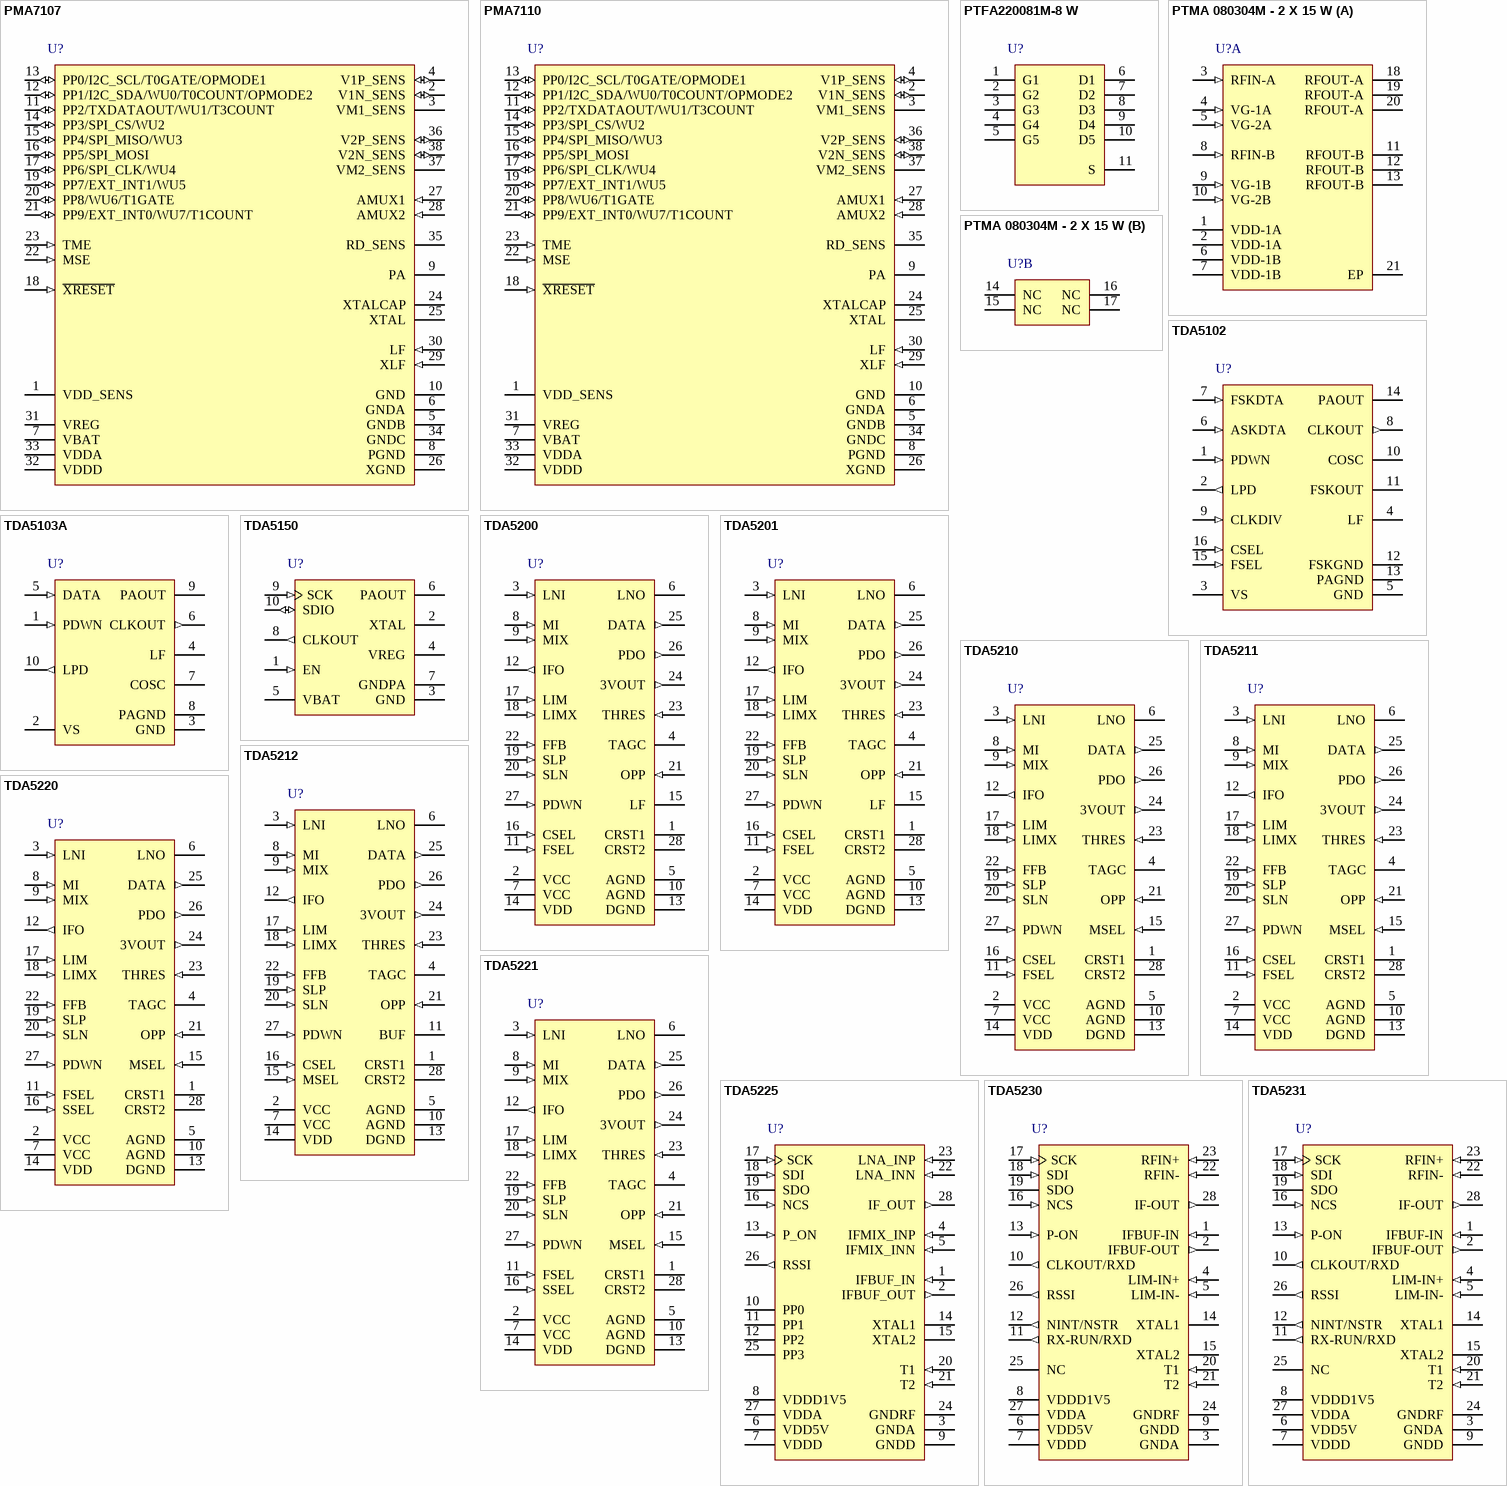
[diagram p8: symbols PMA7107 to TDA5231]

## PMA7107
designator U?
RF Transmitter ASK / FSK 315 / 434 / 868 / 915 MHz, Embedded 8051 Microcontroller, 10-bit ADC, 125 kHz ASK LF Receiver, -40 to 85 degC, PG-TSSOP-38, Green; Manufacturer: Infineon; PartNumber: PMA7107; Channel Requirements per Band: Single Channel; Frequency Band: 315 MHz, 434 MHz, 868 MHz, 915 MHz; Green: yes; Transmit Power (at 3V): 5 dBm, 8 dBm, 10 dBm; DatasheetVersion: Rev. 2.1; PackageReference: PG-TSSOP-38; PackageDescription: 38-Pin Plastic (Green) Thin Shrink Small Outline Package, 9.7 x 4.4 mm Body, 0.5 mm Pitch; Supplier 1: Mouser; Supplier Part Number 1: 726-PMA7107; Supplier 2: Digi-Key; Supplier Part Number 2: PMA7107INTR-ND; Supplier 3: Digi-Key; Supplier Part Number 3: PMA7107INCT-ND; Supplier 4: Digi-Key; Supplier Part Number 4: PMA7107INDKR-ND; Halogen-free: yes; Integrated Microcontroller: yes; Modulation Type: ASK / FSK; Mounting Technology: Surface Mount; ComponentLink1Description: Manufacturer URL; ComponentLink1URL: http://www.infineon.com/; ComponentLink2Description: Datasheet; ComponentLink2URL: http://www.infineon.com/dgdl/PMA71xx_DS_V2_1.pdf?folderId=db3a3043191a246301192dd387ea2ae3&fileId=db3a30431be39b97011c22f8f73e77c9; ComponentLink3Description: Package Specification; ComponentLink3URL: http://www.infineon.com/cms/packages/SMD_-_Surface_Mounted_Devices/P-PG-TSSOP/P-PG-TSSOP-38-3.html?__locale=en
footprint INF-PG-TSSOP-38_N (SOP, 38-Leads, Body 9.7x4.4 mm, Pitch 0.5 mm, IPC Medium Density)
footprint INF-PG-TSSOP-38_L (SOP, 38-Leads, Body 9.7x4.4 mm, Pitch 0.5 mm, IPC High Density)
footprint INF-PG-TSSOP-38_M (SOP, 38-Leads, Body 9.7x4.4 mm, Pitch 0.5 mm, IPC Low Density)
pins: 1 VDD_SENS (power) "Sensor Bridge Positive Supply Output of VReg  during  measurement.", 2 V1N_SENS (io) "Channel 6, High-gain ADC Input Negative input connect to sensor  bridge. Output of wheatstone bridge sensor", 3 VM1_SENS (power) "Channel 6, High-gain ADC Input Sensor bridge negative supply. Same voltage as chip GND.", 4 V1P_SENS (io) "Channel 6, High-gain ADC Input Positive input connect to sensor  bridge. Output of wheatstone bridge sensor", 5 GNDB (power) "Ground", 6 GNDA (power) "Ground", 7 VBAT (power) "Battery Supply Voltage  Regulators", 8 PGND (power) "Power Amplifier Ground Double bond", 9 PA (oc) "Power Amplifier Output Stage", 10 GND (power) "Ground", 11 PP2/TXDATAOUT/WU1/T3COUNT (io) "PP2 -) Serial output of Manchester /  Biphase encoded data. -) GPIO -) External wake-up source 1 -) Clock source for Timer 3 -) Internal, switchable pull-up/pull-down.", 12 PP1/I2C_SDA/WU0/T0COUNT/OPMODE2 (io) "PP1 -) I2C bus interface data -) GPIO -) External wake-up source 0 -) Clock source for Timer 0 -) Select operation mode -) Internal, switchable pull-up/pull-down.", 13 PP0/I2C_SCL/T0GATE/OPMODE1 (io) "PP0 -) I2C bus interface clock -) GPIO -) External enable for Timer 0 -) Select operation mode -) Internal, switchable pull-up/pull-down.", 14 PP3/SPI_CS/WU2 (io) "PP3 -) SPI bus interface chip select -) GPIO -) External wake-up source 2 -) Internal, switchable pull-up/pull-down.", 15 PP4/SPI_MISO/WU3 (io) "PP4 -) SPI bus interface master in slave  out -) GPIO -) External wake-up source 3 -) Internal, switchable pull-up/pull-down.", 16 PP5/SPI_MOSI (io) "PP5 -) SPI bus interface master out  slave in -) GPIO -) Internal, switchable pull-up/pull-down.", 17 PP6/SPI_CLK/WU4 (io) "PP6 -) SPI bus interface clock -) GPIO -) External wake-up source 4 -) Internal, switchable pull-up/pull-down.", 18 ~{XRESET} (in) "External Reset Low active", 19 PP7/EXT_INT1/WU5 (io) "PP7 -) GPIO -) External interrupt source 1 -) External wake-up source 5 -) Internal, switchable pull-up/pull-down.", 20 PP8/WU6/T1GATE (io) "PP8 -) GPIO -) External wake-up source 6 -) External enable for Timer 1 -) Internal, switchable pull-up/pull-down.", 21 PP9/EXT_INT0/WU7/T1COUNT (io) "PP9 -) GPIO -) External interrupt source 0 -) External wake-up source 7 -) Clock source for Timer 1 -) Internal, switchable pull-up/pull-down.", 22 MSE (in) "Mode Select Enable High active, set to GND in NORMAL Mode.", 23 TME (in) "Test Mode Enable, n.a. for  Normal Application Has to be set to GND in NORMAL Mode", 24 XTALCAP "Crystal Oscillator Load  Capacitance", 25 XTAL "Crystal Oscillator Input", 26 XGND (power) "Crystal Oscillator Ground", 27 AMUX1 (in) "Additional Differential ADC  Standard Input1 for External  Sensor Connect to GND if not use.", 28 AMUX2 (in) "Additional Differential ADC  Standard Input2 for External  Sensor Connect to GND if not use.", 29 XLF (in) "Differential LF Receiver Input2 125kHz Input.", 30 LF (in) "Differential LF Receiver Input1", 31 VREG (power) "Internal Voltage Regulator  Output Connect to decoupling capacitor  (CBCAP =100 nF) Regulated Power supply.", 32 VDDD (power) "Digital Supply", 33 VDDA (power) "Analog Supply", 34 GNDC (power) "Ground", 35 RD_SENS "Diagnostic Resistor Use only by having diagnostic  resistor on sensor bridge for highgain ADC input, otherwise no  connection", 36 V2P_SENS (io) "Channel 7, High-gain ADC Input Positive input connect to sensor  bridge. Output of Wheatstone bridge  sensor.", 37 VM2_SENS (power) "Channel 7, High-gain ADC Input Sensor bridge negative supply. Same voltage as chip GND.", 38 V2N_SENS (io) "Channel 7, High-gain ADC Input Negative input connect to sensor  bridge. Output of Wheatstone bridge  sensor."

## PMA7110
designator U?
RF Transmitter ASK / FSK 315 / 434 / 868 / 915 MHz, Embedded 8051 Microcontroller, 10-bit ADC, 125 kHz ASK LF Receiver, -40 to 85 degC, PG-TSSOP-38, Green; Manufacturer: Infineon; PartNumber: PMA7110; Channel Requirements per Band: Single Channel; Frequency Band: 315 MHz, 434 MHz, 868 MHz, 915 MHz; Green: yes; Transmit Power (at 3V): 5 dBm, 8 dBm, 10 dBm; DatasheetVersion: Rev. 2.1; PackageReference: PG-TSSOP-38; PackageDescription: 38-Pin Plastic (Green) Thin Shrink Small Outline Package, 9.7 x 4.4 mm Body, 0.5 mm Pitch; Supplier 1: Mouser; Supplier Part Number 1: 726-PMA7110; Supplier 2: Digi-Key; Supplier Part Number 2: PMA7110INTR-ND; Supplier 3: Digi-Key; Supplier Part Number 3: PMA7110INCT-ND; Supplier 4: Digi-Key; Supplier Part Number 4: PMA7110INDKR-ND; Halogen-free: yes; Integrated Microcontroller: yes; Modulation Type: ASK / FSK; Mounting Technology: Surface Mount; ComponentLink1Description: Manufacturer URL; ComponentLink1URL: http://www.infineon.com/; ComponentLink2Description: Datasheet; ComponentLink2URL: http://www.infineon.com/dgdl/PMA71xx_DS_V2_1.pdf?folderId=db3a3043191a246301192dd387ea2ae3&fileId=db3a30431be39b97011c22f8f73e77c9; ComponentLink3Description: Package Specification; ComponentLink3URL: http://www.infineon.com/cms/packages/SMD_-_Surface_Mounted_Devices/P-PG-TSSOP/P-PG-TSSOP-38-3.html?__locale=en
footprint INF-PG-TSSOP-38_N (SOP, 38-Leads, Body 9.7x4.4 mm, Pitch 0.5 mm, IPC Medium Density)
footprint INF-PG-TSSOP-38_L (SOP, 38-Leads, Body 9.7x4.4 mm, Pitch 0.5 mm, IPC High Density)
footprint INF-PG-TSSOP-38_M (SOP, 38-Leads, Body 9.7x4.4 mm, Pitch 0.5 mm, IPC Low Density)
pins: 1 VDD_SENS (power) "Sensor Bridge Positive Supply Output of VReg  during  measurement.", 2 V1N_SENS (io) "Channel 6, High-gain ADC Input Negative input connect to sensor  bridge. Output of wheatstone bridge sensor", 3 VM1_SENS (power) "Channel 6, High-gain ADC Input Sensor bridge negative supply. Same voltage as chip GND.", 4 V1P_SENS (io) "Channel 6, High-gain ADC Input Positive input connect to sensor  bridge. Output of wheatstone bridge sensor", 5 GNDB (power) "Ground", 6 GNDA (power) "Ground", 7 VBAT (power) "Battery Supply Voltage  Regulators", 8 PGND (power) "Power Amplifier Ground Double bond", 9 PA (oc) "Power Amplifier Output Stage", 10 GND (power) "Ground", 11 PP2/TXDATAOUT/WU1/T3COUNT (io) "PP2 -) Serial output of Manchester /  Biphase encoded data. -) GPIO -) External wake-up source 1 -) Clock source for Timer 3 -) Internal, switchable pull-up/pull-down.", 12 PP1/I2C_SDA/WU0/T0COUNT/OPMODE2 (io) "PP1 -) I2C bus interface data -) GPIO -) External wake-up source 0 -) Clock source for Timer 0 -) Select operation mode -) Internal, switchable pull-up/pull-down.", 13 PP0/I2C_SCL/T0GATE/OPMODE1 (io) "PP0 -) I2C bus interface clock -) GPIO -) External enable for Timer 0 -) Select operation mode -) Internal, switchable pull-up/pull-down.", 14 PP3/SPI_CS/WU2 (io) "PP3 -) SPI bus interface chip select -) GPIO -) External wake-up source 2 -) Internal, switchable pull-up/pull-down.", 15 PP4/SPI_MISO/WU3 (io) "PP4 -) SPI bus interface master in slave  out -) GPIO -) External wake-up source 3 -) Internal, switchable pull-up/pull-down.", 16 PP5/SPI_MOSI (io) "PP5 -) SPI bus interface master out  slave in -) GPIO -) Internal, switchable pull-up/pull-down.", 17 PP6/SPI_CLK/WU4 (io) "PP6 -) SPI bus interface clock -) GPIO -) External wake-up source 4 -) Internal, switchable pull-up/pull-down.", 18 ~{XRESET} (in) "External Reset Low active", 19 PP7/EXT_INT1/WU5 (io) "PP7 -) GPIO -) External interrupt source 1 -) External wake-up source 5 -) Internal, switchable pull-up/pull-down.", 20 PP8/WU6/T1GATE (io) "PP8 -) GPIO -) External wake-up source 6 -) External enable for Timer 1 -) Internal, switchable pull-up/pull-down.", 21 PP9/EXT_INT0/WU7/T1COUNT (io) "PP9 -) GPIO -) External interrupt source 0 -) External wake-up source 7 -) Clock source for Timer 1 -) Internal, switchable pull-up/pull-down.", 22 MSE (in) "Mode Select Enable High active, set to GND in NORMAL Mode.", 23 TME (in) "Test Mode Enable, n.a. for  Normal Application Has to be set to GND in NORMAL Mode", 24 XTALCAP "Crystal Oscillator Load  Capacitance", 25 XTAL "Crystal Oscillator Input", 26 XGND (power) "Crystal Oscillator Ground", 27 AMUX1 (in) "Additional Differential ADC  Standard Input1 for External  Sensor Connect to GND if not use.", 28 AMUX2 (in) "Additional Differential ADC  Standard Input2 for External  Sensor Connect to GND if not use.", 29 XLF (in) "Differential LF Receiver Input2 125kHz Input.", 30 LF (in) "Differential LF Receiver Input1", 31 VREG (power) "Internal Voltage Regulator  Output Connect to decoupling capacitor  (CBCAP =100 nF) Regulated Power supply.", 32 VDDD (power) "Digital Supply", 33 VDDA (power) "Analog Supply", 34 GNDC (power) "Ground", 35 RD_SENS "Diagnostic Resistor Use only by having diagnostic  resistor on sensor bridge for highgain ADC input, otherwise no connection", 36 V2P_SENS (io) "Channel 7, High-gain ADC Input Positive input connect to sensor  bridge. Output of Wheatstone bridge sensor.", 37 VM2_SENS (power) "Channel 7, High-gain ADC Input Sensor bridge negative supply. Same voltage as chip GND.", 38 V2N_SENS (io) "Channel 7, High-gain ADC Input Negative input connect to sensor  bridge. Output of Wheatstone bridge sensor."